# Altium schematic symbol library SolidStateTeslaCoilSCHLIB.SchLib: 34 symbols
Pins are listed as number, name and electrical type; pins without a type are passive.

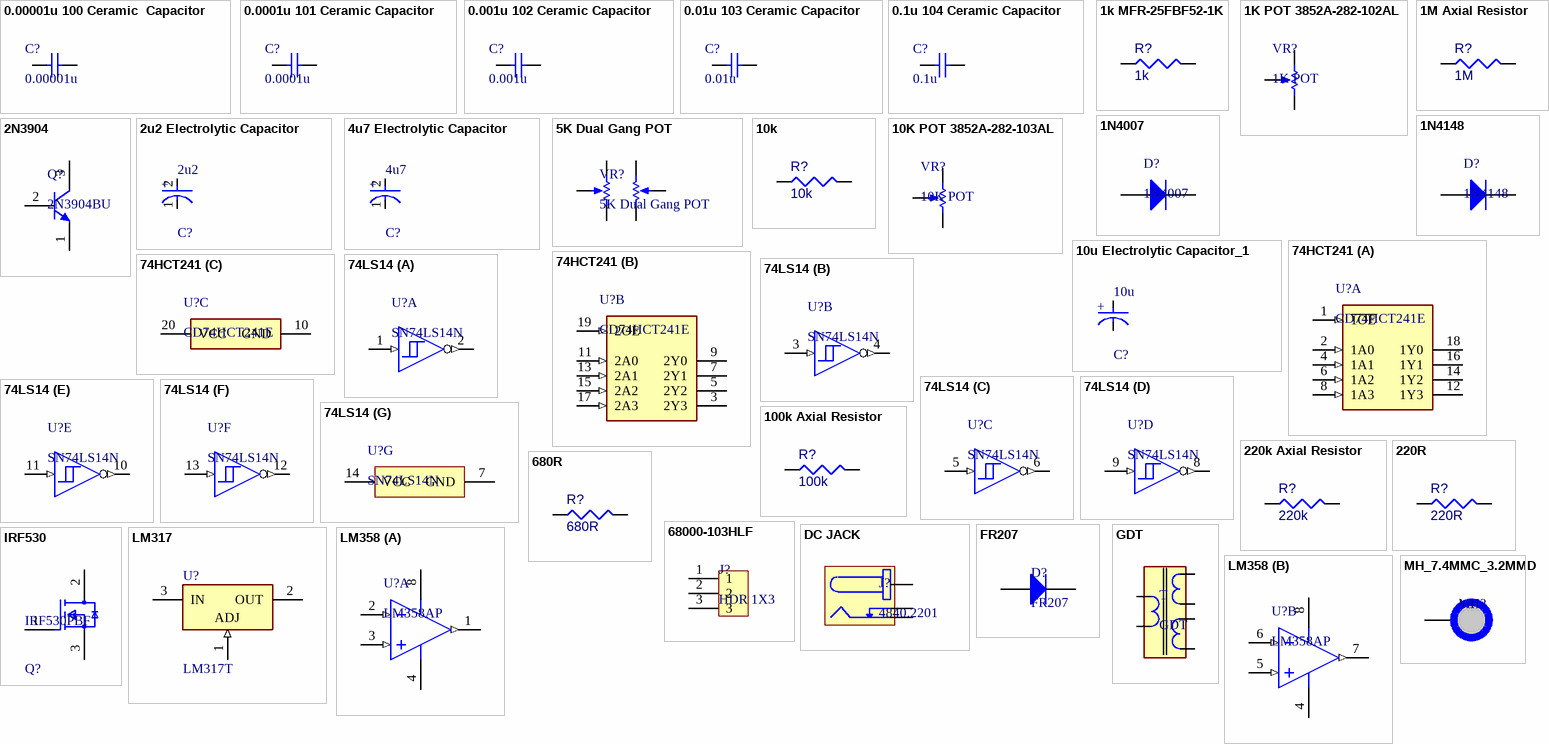
[diagram p0: symbols 0.00001u 100 Ceramic  Capacitor to MH_7.4MMC_3.2MMD]

## 0.00001u 100 Ceramic  Capacitor
designator C?, comment 0.00001u
Ceramic Capacitor, 0.01 nF, +/- 10%, 50 V, -55 to 125 degC, 2-Pin THD, RoHS, Tape and Reel; Manufacturer: Vishay; Other Names: BC1084CT; Catalog Drawings: Mono-KapSide2-15_5.58Mono-KapSide1_15; Temperature Coefficient: X7R; Voltage - Rated: 50V; Online Catalog: Mono-Kap™Series; Capacitance: 0.1µF; Size / Dimension: 0.157"Lx0.098"W(4.00mmx2.50mm); Operating Temperature: -55°C~125°C; Family: CeramicCapacitors; Manufacturer URL: http://www.vishay.com/; Standard Package: 1; Thickness (Max): -; Ratings: -; Datasheet Version: 08/2013; Package Description: 2-Pin Through Hole Device, Body 4 x 2.6 mm; Mounting Type: ThroughHole; Features: -; Lead Spacing: 0.098"(2.50mm); Tolerance: ±10%; Category: Capacitors; Mounting Technology: ThroughHole; Lead Style: Straight; Datasheet URL: http://www.vishay.com/docs/45171/kseries.pdf; Applications: GeneralPurpose; Package / Case: Radial; Height - Seated (Max): 0.220"(5.58mm); Package Reference: K104K15X7RF5TL2; Series: Mono-Kap™K; Packaging: CutTape(CT)
footprint Ceramic Capacitor THT (THD, 2-Leads, Body 4x2.6mm)
pins: 1, 2

## 0.0001u 101 Ceramic Capacitor
designator C?, comment 0.0001u
Ceramic Capacitor, 0.1 nF, +/- 10%, 50 V, -55 to 125 degC, 2-Pin THD, RoHS, Tape and Reel; Manufacturer: Vishay; Other Names: BC1084CT; Catalog Drawings: Mono-KapSide2-15_5.58Mono-KapSide1_15; Temperature Coefficient: X7R; Voltage - Rated: 50V; Online Catalog: Mono-Kap™Series; Capacitance: 0.1µF; Size / Dimension: 0.157"Lx0.098"W(4.00mmx2.50mm); Operating Temperature: -55°C~125°C; Family: CeramicCapacitors; Manufacturer URL: http://www.vishay.com/; Standard Package: 1; Thickness (Max): -; Ratings: -; Datasheet Version: 08/2013; Package Description: 2-Pin Through Hole Device, Body 4 x 2.6 mm; Mounting Type: ThroughHole; Features: -; Lead Spacing: 0.098"(2.50mm); Tolerance: ±10%; Category: Capacitors; Mounting Technology: ThroughHole; Lead Style: Straight; Datasheet URL: http://www.vishay.com/docs/45171/kseries.pdf; Applications: GeneralPurpose; Package / Case: Radial; Height - Seated (Max): 0.220"(5.58mm); Package Reference: K104K15X7RF5TL2; Series: Mono-Kap™K; Packaging: CutTape(CT)
footprint Ceramic Capacitor THT (THD, 2-Leads, Body 4x2.6mm)
pins: 1, 2

## 0.001u 102 Ceramic Capacitor
designator C?, comment 0.001u
Ceramic Capacitor, 1 nF, +/- 10%, 50 V, -55 to 125 degC, 2-Pin THD, RoHS, Tape and Reel; Manufacturer: Vishay; Other Names: BC1084CT; Catalog Drawings: Mono-KapSide2-15_5.58Mono-KapSide1_15; Temperature Coefficient: X7R; Voltage - Rated: 50V; Online Catalog: Mono-Kap™Series; Capacitance: 0.1µF; Size / Dimension: 0.157"Lx0.098"W(4.00mmx2.50mm); Operating Temperature: -55°C~125°C; Family: CeramicCapacitors; Manufacturer URL: http://www.vishay.com/; Standard Package: 1; Thickness (Max): -; Ratings: -; Datasheet Version: 08/2013; Package Description: 2-Pin Through Hole Device, Body 4 x 2.6 mm; Mounting Type: ThroughHole; Features: -; Lead Spacing: 0.098"(2.50mm); Tolerance: ±10%; Category: Capacitors; Mounting Technology: ThroughHole; Lead Style: Straight; Datasheet URL: http://www.vishay.com/docs/45171/kseries.pdf; Applications: GeneralPurpose; Package / Case: Radial; Height - Seated (Max): 0.220"(5.58mm); Package Reference: K104K15X7RF5TL2; Series: Mono-Kap™K; Packaging: CutTape(CT)
footprint Ceramic Capacitor THT (THD, 2-Leads, Body 4x2.6mm)
pins: 1, 2

## 0.01u 103 Ceramic Capacitor
designator C?, comment 0.01u
Ceramic Capacitor, 10 nF, +/- 10%, 50 V, -55 to 125 degC, 2-Pin THD, RoHS, Tape and Reel; Manufacturer: Vishay; Other Names: BC1084CT; Catalog Drawings: Mono-KapSide2-15_5.58Mono-KapSide1_15; Temperature Coefficient: X7R; Voltage - Rated: 50V; Online Catalog: Mono-Kap™Series; Capacitance: 0.1µF; Size / Dimension: 0.157"Lx0.098"W(4.00mmx2.50mm); Operating Temperature: -55°C~125°C; Family: CeramicCapacitors; Manufacturer URL: http://www.vishay.com/; Standard Package: 1; Thickness (Max): -; Ratings: -; Datasheet Version: 08/2013; Package Description: 2-Pin Through Hole Device, Body 4 x 2.6 mm; Mounting Type: ThroughHole; Features: -; Lead Spacing: 0.098"(2.50mm); Tolerance: ±10%; Category: Capacitors; Mounting Technology: ThroughHole; Lead Style: Straight; Datasheet URL: http://www.vishay.com/docs/45171/kseries.pdf; Applications: GeneralPurpose; Package / Case: Radial; Height - Seated (Max): 0.220"(5.58mm); Package Reference: K104K15X7RF5TL2; Series: Mono-Kap™K; Packaging: CutTape(CT)
footprint Ceramic Capacitor THT (THD, 2-Leads, Body 4x2.6mm)
pins: 1, 2

## 0.1u 104 Ceramic Capacitor
designator C?, comment 0.1u
Ceramic Capacitor, 100 nF, +/- 10%, 50 V, -55 to 125 degC, 2-Pin THD, RoHS, Tape and Reel; Manufacturer: Vishay; Other Names: BC1084CT; Catalog Drawings: Mono-KapSide2-15_5.58Mono-KapSide1_15; Temperature Coefficient: X7R; Voltage - Rated: 50V; Online Catalog: Mono-Kap™Series; Capacitance: 0.1µF; Size / Dimension: 0.157"Lx0.098"W(4.00mmx2.50mm); Operating Temperature: -55°C~125°C; Family: CeramicCapacitors; Manufacturer URL: http://www.vishay.com/; Standard Package: 1; Thickness (Max): -; Ratings: -; Datasheet Version: 08/2013; Package Description: 2-Pin Through Hole Device, Body 4 x 2.6 mm; Mounting Type: ThroughHole; Features: -; Lead Spacing: 0.098"(2.50mm); Tolerance: ±10%; Category: Capacitors; Mounting Technology: ThroughHole; Lead Style: Straight; Datasheet URL: http://www.vishay.com/docs/45171/kseries.pdf; Applications: GeneralPurpose; Package / Case: Radial; Height - Seated (Max): 0.220"(5.58mm); Package Reference: K104K15X7RF5TL2; Series: Mono-Kap™K; Packaging: CutTape(CT)
footprint Ceramic Capacitor THT (THD, 2-Leads, Body 4x2.6mm)
pins: 1, 2

## 1k MFR-25FBF52-1K
designator R?, comment 1k
Axial Resistor, 1 KOhm, +/- 1%, 250 mW, -55 to 155 degC, 2-Pin THD, RoHS, Bulk
footprint RESA60-630X240 (Axial Resistor, 2-Leads, Dia 2.4mm, Body Length 6.3mm)
pins: 1, 2
1 alternate drawing of the same symbol

## 1K POT 3852A-282-102AL
designator VR?, comment 1K POT
Diameter Panel Control, 1 KOhm, +/- 10%, 2 W, -1 to 125 degC, 3-Pin THD, RoHS, Bulk; Manufacturer: Bourns; Temperature Coefficient: ±150ppm/degC; Number of Gangs: 1; Other Names: 3852A282103AL; Actuator Length: 0.875"(22.23mm); Resistive Material: Cermet; PCN Design/Specification: PBTResinJun/2011; Rotation: 280deg; PCN Other: MultipleChanges01/Dec/2012; Catalog Drawings: 3852SeriesSide1 / 3852SeriesSide2; Online Catalog: 3852and3856Series; Associated Product: 36-8560-ND / -KNOBINSTRUMW/DIALRND.9"DIA / 36-8555-ND / -KNOBINSTRUMSKIRTEDRND.7"DIA / 36-8556-ND / -KNOBINSTRUMSKIRTEDRND.9"DIA / 36-8565-ND / -KNOBINSTRUMDBLBARRND.7"DIA / 36-8566-ND / -KNOBINSTRUMDBLBARRND.9"DIA / 36-8568-ND / -KNOBINSTRUMSGLBARRND.7"DIA / 36-8569-ND / -KNOBINSTRUMSGLBARRND.9"DIA / 36-8559-ND / -KNOBINSTRUMW/DIALRND.7"DIA / 226-1006-ND / -KNOBBLKGLOSS.75"DIA.250"SHAFT / 226-1007-ND / -KNOBBLKGLOSS.925"DIA.250"SHAFT / 226-1011-ND / -KNOBBLKGLOS; Actuator Diameter: 0.250"(6.35mm); Built in Switch: None; Resistance (Ohms): 10k; Power (Watts): 2W; Actuator Type: Slotted; Standard Package: 45; Tolerance: ±10%; Taper: Linear; Series: 3852; Packaging: Bulk; Category: Potentiometers,VariableResistors; Bushing Thread: 3/8-32; Datasheet URL: https://datasheet.ciiva.com/11831/0900766b80f93b4b-11831016.pdf; Datasheet Version: Sep-14; Number of Turns: 1; Family: RotaryPotentiometers,Rheostats; Termination Style: SolderLug; RoHS Information: 3852A-LMaterialDeclaration; Mounting Type: PanelMount; Manufacturer URL: http://www.bourns.com/
footprint BOUR-3852A-282-103AL-3_V (TH, 3-Leads, Body 19.81x19.05mm, Pitch 6.35mm)
pins: 1 CCW, 2 S, 3 CW

## 1M Axial Resistor
designator R?, comment 1M
Axial Resistor, 1 MOhm,
footprint RESA60-630X240 (Axial Resistor, 2-Leads, Dia 2.4mm, Body Length 6.3mm)
pins: 1, 2
1 alternate drawing of the same symbol

## 1N4007
designator D?
1N4007 Generic Diode; Manufacturer: Fairchild; Elements: 1; Recovery Time: 4ns; Forward Current: 300mA; Power: 500mW; Forward Voltage: 1V; Max Surge Current: 4A; Peak Reverse Current: 5uA; Datasheet URL: http://www.nxp.com/documents/data_sheet/1N4148_1N4448.pdf; Min Operating Temperature: -65°C; Manufacturer URL: https://www.fairchildsemi.com/; Packaging: Bulk; Diameter: 1.91mm; Pins: 2; Package URL: http://www.nxp.com/documents/data_sheet/1N4148_1N4448.pdf; Package Reference: SOD27; Max Operating Temperature: 175°C; Package Quantity: 2000; Case/Package: DO; Datasheet Version: Aug-04; RoHS Compliant: True
footprint Diode (SOD27, 2-Leads, Dia 1.85mm, Body Length 4.25mm, Pin Spacing 9mm)
pins: 1 A, 2 K

## 1N4148
designator D?
High Speed Diode, 100 V, 0.45 A, -65 to 175 degC, 2-Pin SOD27, RoHS, Bulk; Manufacturer: Fairchild; Elements: 1; Recovery Time: 4ns; Forward Current: 300mA; Power: 500mW; Forward Voltage: 1V; Max Surge Current: 4A; Peak Reverse Current: 5uA; Datasheet URL: http://www.nxp.com/documents/data_sheet/1N4148_1N4448.pdf; Min Operating Temperature: -65°C; Manufacturer URL: https://www.fairchildsemi.com/; Packaging: Bulk; Diameter: 1.91mm; Pins: 2; Package URL: http://www.nxp.com/documents/data_sheet/1N4148_1N4448.pdf; Package Reference: SOD27; Max Operating Temperature: 175°C; Package Quantity: 2000; Case/Package: DO; Datasheet Version: Aug-04; RoHS Compliant: True
footprint Diode (SOD27, 2-Leads, Dia 1.85mm, Body Length 4.25mm, Pin Spacing 9mm)
pins: 1 A, 2 K

## 2N3904
designator Q?, comment 2N3904BU
NPN General-Purpose Amplifier, 40 V VCEO, 0.2 A, -55 to 150 degC, 2-Pin TO-92, RoHS, Bulk; Manufacturer: FairchildSemiconductor; Maximum Collector Base Voltage: 60V; Minimum DC Current Gain: 40@0.1mA@1V|70@1mA@1V|100@10mA@1V|60@50mA@1V|30@100mA@1V; Maximum Collector Emitter Voltage: 40V; Maximum DC Collector Current: 0.2A; Rad Hard: No; Maximum Operating Frequency: 300(Min)MHz; Maximum Collector Emitter Saturation Voltage: 0.2@1mA@10mA|0.3@5mA@50mAV; Maximum Power Dissipation: 625mW; Package Description: 3-Pin Transistor Outline Package, Body Dia 4.79 mm, Pitch 1.27 mm; Package Reference: TO-92; Pin Count: 3; Operating Temperature: -55to150degC; Category: GPBJT; Manufacturer URL: https://www.fairchildsemi.com/; Datasheet URL: https://datasheet.ciiva.com/4722/2n3904-82270-4722369.pdf; Package: 3TO-92; Packaging: Bulk; Type: NPN; Datasheet Version: Rev. 1.1.0, 10/2014; Mounting: ThroughHole
footprint FAIR-TO-92 (TO, 3-Leads, Body Dia 4.79mm, Pitch 1.27mm)
pins: 1 E, 2 B, 3 C

## 2u2 Electrolytic Capacitor
designator C?, comment 2u2
Aluminum Electrolytic Capacitors (Radial Lead Type) AEC-Q200 Qualified 2.2uF ±20% 50V; Polarity: Polar; Ripple Current: 45mA; Impedance: 1.8R; Lead Diameter: 0.5mm; Life (Hours): 1000Hour; Voltage Rating: 50V; Case/Package: Radial; Packaging: Tape and Reel; Diameter: 5mm; Construction: RADIAL; Mount: Through Hole; Radiation Hardening: No; Tolerance: 20%; Min Operating Temperature: -55°C; Length: 11mm; Voltage Rating (DC): 50V; Height: 11mm; Max Operating Temperature: 105°C; Package Quantity: 2000; Height - Seated (Max): 0.472inch; ESR (Equivalent Series Resistance): 1.8R; Features: General Purpose; Capacitance: 2.2uF; Lead Pitch: 5mm; Series: FC; RoHS Compliant: Yes; Termination: Radial
footprint FP-RAD-TH-D_5_0_5-L_11_1-MFG
pins: 1 C, 2 A
text: +

## 4u7 Electrolytic Capacitor
designator C?, comment 4u7
Aluminum Electrolytic Capacitors (Radial Lead Type) AEC-Q200 Qualified 4u7uF ±20% 50V; Polarity: Polar; Ripple Current: 45mA; Impedance: 1.8R; Lead Diameter: 0.5mm; Capacitance: 2.2uF; Life (Hours): 1000Hour; Voltage Rating: 50V; Case/Package: Radial; Packaging: Tape and Reel; Diameter: 5mm; Construction: RADIAL; Mount: Through Hole; Radiation Hardening: No; Tolerance: 20%; Min Operating Temperature: -55°C; Length: 11mm; Voltage Rating (DC): 50V; Height: 11mm; Max Operating Temperature: 105°C; Package Quantity: 2000; Height - Seated (Max): 0.472inch; ESR (Equivalent Series Resistance): 1.8R; Features: General Purpose; Lead Pitch: 5mm; Series: FC; RoHS Compliant: Yes; Termination: Radial
footprint FP-RAD-TH-D_5_0_5-L_11_1-MFG
pins: 1 C, 2 A
text: +

## 5K Dual Gang POT
designator VR?
footprint Dual Gang Pot (TH, 3-Leads, Body 19.81x19.05mm, Pitch 6.35mm)
pins: 1 CCW, 2 S, 3 CW, 4 CCW, 5 S, 6 CW

## 10k
designator R?
Axial Resistor, 10 KOhm, +/- 1%, 250 mW, -55 to 155 degC, 2-Pin THD, RoHS, Bulk
footprint RESA60-630X240 (Axial Resistor, 2-Leads, Dia 2.4mm, Body Length 6.3mm)
pins: 1, 2
1 alternate drawing of the same symbol

## 10K POT 3852A-282-103AL
designator VR?, comment 10K POT
Diameter Panel Control, 10 KOhm, +/- 10%, 2 W, -1 to 125 degC, 3-Pin THD, RoHS, Bulk; Manufacturer: Bourns; Temperature Coefficient: ±150ppm/degC; Number of Gangs: 1; Other Names: 3852A282103AL; Actuator Length: 0.875"(22.23mm); Resistive Material: Cermet; PCN Design/Specification: PBTResinJun/2011; Rotation: 280deg; PCN Other: MultipleChanges01/Dec/2012; Catalog Drawings: 3852SeriesSide1 / 3852SeriesSide2; Online Catalog: 3852and3856Series; Associated Product: 36-8560-ND / -KNOBINSTRUMW/DIALRND.9"DIA / 36-8555-ND / -KNOBINSTRUMSKIRTEDRND.7"DIA / 36-8556-ND / -KNOBINSTRUMSKIRTEDRND.9"DIA / 36-8565-ND / -KNOBINSTRUMDBLBARRND.7"DIA / 36-8566-ND / -KNOBINSTRUMDBLBARRND.9"DIA / 36-8568-ND / -KNOBINSTRUMSGLBARRND.7"DIA / 36-8569-ND / -KNOBINSTRUMSGLBARRND.9"DIA / 36-8559-ND / -KNOBINSTRUMW/DIALRND.7"DIA / 226-1006-ND / -KNOBBLKGLOSS.75"DIA.250"SHAFT / 226-1007-ND / -KNOBBLKGLOSS.925"DIA.250"SHAFT / 226-1011-ND / -KNOBBLKGLOS; Actuator Diameter: 0.250"(6.35mm); Built in Switch: None; Power (Watts): 2W; Actuator Type: Slotted; Standard Package: 45; Tolerance: ±10%; Taper: Linear; Series: 3852; Packaging: Bulk; Category: Potentiometers,VariableResistors; Bushing Thread: 3/8-32; Datasheet URL: https://datasheet.ciiva.com/11831/0900766b80f93b4b-11831016.pdf; Datasheet Version: Sep-14; Number of Turns: 1; Family: RotaryPotentiometers,Rheostats; Termination Style: SolderLug; Resistance (Ohms): 10k; RoHS Information: 3852A-LMaterialDeclaration; Mounting Type: PanelMount; Manufacturer URL: http://www.bourns.com/
footprint BOUR-3852A-282-103AL-3_V (TH, 3-Leads, Body 19.81x19.05mm, Pitch 6.35mm)
pins: 1 CCW, 2 S, 3 CW

## 10u Electrolytic Capacitor_1
designator C?, comment 10u
Aluminum Electrolytic Capacitors 10u; Voltage Rating: 50V; Tolerance: 20%; Polarity: Polar; Ripple Current: 45mA; Impedance: 1.8R; Lead Diameter: 0.5mm; Capacitance: 2.2uF; Life (Hours): 1000Hour; Case/Package: Radial; Packaging: Tape and Reel; Diameter: 5mm; Construction: RADIAL; Mount: Through Hole; Radiation Hardening: No; Min Operating Temperature: -55°C; Length: 11mm; Voltage Rating (DC): 50V; Height: 11mm; Max Operating Temperature: 105°C; Package Quantity: 2000; Height - Seated (Max): 0.472inch; ESR (Equivalent Series Resistance): 1.8R; Features: General Purpose; Lead Pitch: 5mm; Series: FC; RoHS Compliant: Yes; Termination: Radial
footprint FP-RAD-TH-D_5_0_5-L_11_1-MFG
pins: 1 C, 2 A
text: +

## 74HCT241
designator U?, comment CD74HCT241E
High Speed CMOS Logic Non-Inverting Octal Buffer/Line Drivers with 3-State Outputs, N0020A, TUBE; Manufacturer: Texas Instruments; VCC(Min)(V): 4.5; Rating: Catalog; Bits(#): 8; tpd @ Nom Voltage(Max)(ns): 28; ICC @ Nom Voltage(Max)(mA): 0.08; Voltage(Nom)(V): 5; Input Type: TTL; F @ Nom Voltage(Max)(Mhz): 25; VCC(Max)(V): 5.5; Generic Part Number: CD74HCT241; PackageVersion: http://www.ti.com/lit/ml/mpdi002c/mpdi002c.pdf; PackageReference: N0020A; Operating Temperature Range(C): -55 to 125; DatasheetVersion: SCHS167E; Output Type: CMOS; Code_JEDEC: MS-001
footprint 20PINDIP (DIP, 20-Leads, Body 26.9x6.6mm, Pitch 2.54mm)
part A pins: 1 ~{1OE} (in), 2 1A0 (in), 4 1A1 (in), 6 1A2 (in), 8 1A3 (in), 12 1Y3 (hiz), 14 1Y2 (hiz), 16 1Y1 (hiz), 18 1Y0 (hiz)
part B pins: 3 2Y3 (hiz), 5 2Y2 (hiz), 7 2Y1 (hiz), 9 2Y0 (hiz), 11 2A0 (in), 13 2A1 (in), 15 2A2 (in), 17 2A3 (in), 19 2OE (in)
part C pins: 10 GND (power), 20 VCC (power)

## 74LS14
designator U?, comment SN74LS14N
Hex schmitt-trigger inverters, N0014A, TUBE; Manufacturer: Texas Instruments; F @ Nom Voltage(Max)(Mhz): 35; Input Type: TTL; Technology Family: LS; Bits(#): 6; Output Drive (IOL/IOH)(Max)(mA): -0.4/8; ICC @ Nom Voltage(Max)(mA): 0.06; VCC(Min)(V): 4.75; Voltage(Nom)(V): 5; tpd @ Nom Voltage(Max)(ns): 22; Schmitt Trigger: Yes; VCC(Max)(V): 5.25; Rating: Catalog; Output Type: CMOS; PackageReference: N0014A; DatasheetVersion: SDLS049B; Code_JEDEC: MS-001; Generic Part Number: SN74LS14; Operating Temperature Range(C): 0 to 70
footprint 14PINDIP (DIP, 14-Leads, Body 19.7x6.6mm, Pitch 2.54mm)
part A pins: 1 1A (in) "Input 1A", 2 ~{1Y} (out) "Output 1Y"
part B pins: 3 2A (in) "Input 2A", 4 ~{2Y} (out) "Output 2Y"
part C pins: 5 3A (in) "Input 3A", 6 ~{3Y} (out) "Output 3Y"
part D pins: 8 ~{4Y} (out) "Output 4Y", 9 4A (in) "Input 4A"
part E pins: 10 ~{5Y} (out) "Output 5Y", 11 5A (in) "Input 5A"
part F pins: 12 ~{6Y} (out) "Output 6Y", 13 6A (in) "Input 6A"
part G pins: 7 GND (power) "Ground Pin", 14 VCC (power) "Power Pin"

## 100k Axial Resistor
designator R?, comment 100k
Axial Resistor, 100 KOhm
footprint RESA60-630X240 (Axial Resistor, 2-Leads, Dia 2.4mm, Body Length 6.3mm)
pins: 1, 2
1 alternate drawing of the same symbol

## 220k Axial Resistor
designator R?, comment 220k
Axial Resistor, 220 KOhm,
footprint RESA60-630X240 (Axial Resistor, 2-Leads, Dia 2.4mm, Body Length 6.3mm)
pins: 1, 2
1 alternate drawing of the same symbol

## 220R
designator R?
Axial Resistor, 220 Ohm,
footprint RESA60-630X240 (Axial Resistor, 2-Leads, Dia 2.4mm, Body Length 6.3mm)
pins: 1, 2
1 alternate drawing of the same symbol

## 680R
designator R?
Axial Resistor, 680 Ohm,
footprint RESA60-630X240 (Axial Resistor, 2-Leads, Dia 2.4mm, Body Length 6.3mm)
pins: 1, 2
1 alternate drawing of the same symbol

## 68000-103HLF
designator J?, comment HDR 1X3
Conn Unshrouded Header HDR 3 POS 2.54mm Solder ST Top Entry Thru-Hole BergStik® Automotive Bulk; Manufacturer: Amphenol ICC / FCI; Manufacturer Part Number: 68000-103HLF; Supplier 1: Digi-Key; RoHS: No; Category: Headers and Wire Housings; ComponentLink1URL: https://datasheet.ciiva.com/46392/1914865-46392021.pdf?src-supplier=Element14; ComponentLink1Description: https://datasheet.ciiva.com/46392/1914865-46392021.pdf?src-supplier=Element14; Supplier Part Number 1: 609-3461-ND
footprint HDR_1x3_2.54mm
pins: 1, 2, 3

## DC JACK
designator J?, comment 4840.2201
DC Connector Socket 6x2mm 2-Pole 12VDC 0.5A 500VDC Dielectric Solder Term PCB Mt; Manufacturer: Schurter; Number of Terminals/Pins: 3; Gender: Male; Shielding: Unshielded; Current Rating: 500mA; Voltage Rating: 12V; Number of Ports: 1; Connector Type: Jack; Pin Diameter: 2mm; Supplier 1: Digi-Key; Manufacturer Part Number: 4840.2201; RoHS: Yes; Category: Connectors; Stock 1: 9153; Pricing 1: 1=1.82000, 50=1.67900, 100=1.41120 (USD); Mounting Technology: Through Hole; Color: Black; Contact Material: Copper Alloy; Housing Material: PC; Weight: 0.007125oz; Contact Plating: Tin; Housing Color: Black; Termination: Solder; Number of Contacts: 3; Orientation: Right Angle; Package Quantity: 500; Series: 4840; Length: 9mm; Width: 9mm; Depth: 14.5mm; Radiation Hardening: No; Lead Free: Lead Free; RoHS Compliant: Yes; ComponentLink1URL: https://datasheet.ciiva.com/26837/getdatasheetpartid-572408-26837414.pdf?src-supplier=Verical; ComponentLink1Description: https://datasheet.ciiva.com/26837/getdatasheetpartid-572408-26837414.pdf?src-supplier=Verical; ComponentLink2URL: https://datasheet.ciiva.com/16318/typ-4840-1200-16318967.pdf?src-supplier=Future+Electronics; ComponentLink2Description: https://datasheet.ciiva.com/16318/typ-4840-1200-16318967.pdf?src-supplier=Future+Electronics; ComponentLink3URL: https://datasheet.ciiva.com/12342/typ-4840-2201-65401-12342879.pdf?src-supplier=Mouser; ComponentLink3Description: https://datasheet.ciiva.com/12342/typ-4840-2201-65401-12342879.pdf?src-supplier=Mouser; ComponentLink4URL: https://datasheet.ciiva.com/391/typ-4840-2201-391834.pdf?src-supplier=Digi-Key; ComponentLink4Description: https://datasheet.ciiva.com/391/typ-4840-2201-391834.pdf?src-supplier=Digi-Key; Supplier Part Number 1: 486-3381-ND
footprint DC_JACK
pins: 1, 2, 3

## FR207
designator D?
MULTICOMP         FR207            Standard Power Diode fast diode, Single, 1 kV, 2 A, 1.2 V, 60 A, 150 C; Supplier 1: Newark; Manufacturer: Multicomp; Manufacturer Part Number: FR207; RoHS: Yes; Category: Uncategorized; Pricing 1: 5=0.23, 10=0.19, 100=0.075, 1000=0.053 (USD); ComponentLink1URL: http://www.farnell.com/datasheets/1693119.pdf?src-supplier=Element14; ComponentLink1Description: http://www.farnell.com/datasheets/1693119.pdf?src-supplier=Element14; Supplier Part Number 1: 01P3472
footprint Diode (SOD27, 2-Leads, Dia 1.85mm, Body Length 4.25mm, Pin Spacing 9mm)
pins: 1 A, 2 K

## GDT
designator T
pins: 1, 2, 3, 4, 5, 6

## IRF530
designator Q?, comment IRF530PBF
MOSFET N-CH 100V 14A TO-220AB; Manufacturer: Vishay; Reverse Recovery Charge: 850nC; Rthja Max: 62°C/W; Power Dissipation: 88W; Depletion Mode: False; Input Capacitace At Vds: 670pF @ 25V; Pulse Drain Current: 56A; Turn On Delay Time: 10ns; Drain To Source Resistance: 0.16Ω; Number Of N Channels: 1; Max Junction Temp: +175°C; Threshold Vgs Max: 4V; Standoff Height: 3.33mm; Max Forward Diode Voltage: 2.5V; Turn Off Delay Time: 23ns; Gate To Source Voltage: 20V; Threshold Vgs Min: 2V; Reverse Recovery Time: 150ns; Gate Charge At Vgs: 26nC @ 10V; Temperature: -55°C to +175°C; Drain To Source Voltage: 100V; Mouser Description: MOSFET N-Chan 100V 14 Amp; Device Class L2: Transistors; Temperature Range High: +175°C; ComponentLink2URL: http://www.vishay.com/docs/91019/91019.pdf; Lead Free: Yes; Height: 19.89mm; Octopart: https://octopart.com/irf530pbf-vishay-46547999; Category: Trans; ComponentLink2Description: Datasheet; RoHS: TRUE; Device Class L3: MOSFETs; Automotive: No; Device Class L1: Discrete Semiconductors; Package: X15-0364; Manufacturer Part Number: IRF530PBF; Continuous Drain Current: 14A; Digikey Description: MOSFET N-CH 100V 14A TO-220AB; Number Of Channels: 1; Drain To Source Breakdown Voltage: 100V; Temperature Range Low: -55°C
footprint FP-X15-0364-MFG
pins: 1 G, 2 D, 3 S

## LM317
designator U?, comment LM317T
Integrated Circuit 3-terminal Positive Adjustable Voltage Regulator TO-220 Case 1.2 To 37 Volts; Case/Package: TO-220; Pins: 3; RoHS Compliant: Yes
footprint TO-220 (TO, Thru-Hole, Vertical, Heatsink Mounted; 3 In-Line Leads; Pitch 2.54 mm)
pins: 1 ADJ (in), 2 OUT (power), 3 IN (power)

## LM358
designator U?, comment LM358AP
Dual Operational Amplifier, 3 to 32 V, 0 to 70 degC, 8-Pin PDIP (P), Pb-Free (RoHS), Tube; Manufacturer: Texas Instruments (TI); Channels: 2; Max Dual Supply Voltage: 16V; Min Dual Supply Voltage: 1.5V; Slew Rate: 0.3V/us; Unity Gain Bandwidth Product: 700KHz; Common Mode Rejection Ratio: 65dB; Nominal Supply Voltage: 5V; Package Version: 4040082/E, 04/2010; Output Current: 30mA; Nominal Supply Current: 1.2mA; Nominal Voltage Gain: 100dB; Case/Package: DIP; Max Operating Temperature: 70°C; RoHS Compliant: True; Manufacturer URL: http://www.ti.com/; Pins: 8; Package Description: 8-Pin Double In-line Package, Body 9.59 x 6.35 mm, Pitch 2.54 mm; Datasheet URL: http://www.ti.com/lit/ds/symlink/lm358a.pdf; Max Supply Voltage: 16V; Package Reference: P0008A; Mounting Technology: TH; Min Operating Temperature: 0°C; Package URL: http://www.ti.com/lit/ml/mpdi001b/mpdi001b.pdf; Min Supply Voltage: 1.5V; Package Quantity: 50; Packaging: Rail/Tube; Datasheet Version: SLOS068T, 04/2015; Nominal Gain Bandwith Product: 700KHz
footprint 8PinDIP (DIP, 8-Leads, Body 10.15x6.6mm, Pitch 2.54mm)
pins on every part: 4 GND (power), 8 VCC (power)
part A pins: 1 1OUT (out), 2 1IN- (in), 3 1IN+ (in)
part B pins: 5 2IN+ (in), 6 2IN- (in), 7 2OUT (out)

## MH_7.4MMC_3.2MMD
designator MH?  (value not drawn)  (no BOM)
Mounting Hole 7.4mm Diameter, 3.2mm Drill
footprint MH_7.4MMC_3.2MMD
pins: 1

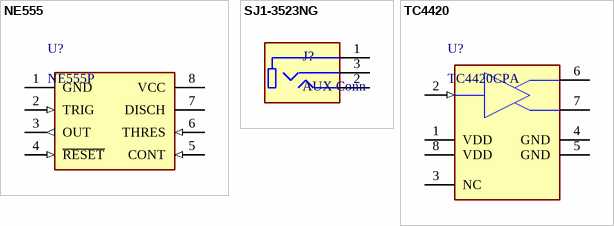
[diagram p1: symbols NE555 to TC4420]

## NE555
designator U?, comment NE555P
Precision Timer, 4.5 to 16 V, 0 to 70 degC, 8-Pin DIP, Pb-Free, Tube; Manufacturer: TexasInstruments; Maximum High Level Output Current: -200mA; Number of Internal Timers: 1; Operating Supply Voltage: 5|9|12|15V; Maximum Low Level Output Current: 200mA; Rad Hard: No; Packaging: Rail/Tube; Manufacturer URL: http://www.ti.com/; Package Reference: P8; Package Description: 8-Pin Double In-line Package, Body 9.59 x 6.35 mm, Pitch 2.54 mm; Package URL: http://www.ti.com/lit/ml/mpdi001b/mpdi001b.pdf; Type: Standard; Datasheet URL: http://www.ti.com/general/docs/lit/getliterature.tsp?genericPartNumber=NE555&fileType=pdf; Category: Timer; Package: 8PDIP; Datasheet Version: Rev. I, 09/2014
footprint 8PinDIP (DIP, 8-Leads, Body 10.15x6.6mm, Pitch 2.54mm)
pins: 1 GND (power), 2 TRIG (in), 3 OUT (out), 4 ~{RESET} (in), 5 CONT (in), 6 THRES (in), 7 DISCH (oc), 8 VCC (power)

## SJ1-3523NG
designator J?, comment AUX Conn
3.5 mm Right-Angle Stereo Jack, 3 Pin PCB Mount, Isolated Ground; MP: SJ1-3523NG; Availability: Unavailable; Price: None; Case/Package: None; Pins: 3; Component Type: Standard; Design Item ID: SJ1-3523NG; Value: *; Source: SJ1-3523NG.SchLib
footprint CUI_SJ1-3523NG
pins: 1, 2, 3

## TC4420
designator U?, comment TC4420CPA
6A High-Speed MOSFET Driver, Non-Inverting, Commercial Temperature; Code_JEDEC: MS-001-BA; PackageReference: PDIP300-PA8; PackageVersion: revBB, Aug-2009; PackageDescription: 8-Lead Plastic Dual In-Line (PA) - 300 mil Body [PDIP]; DatasheetVersion: revC, Aug-2004
footprint 8PinDIP (DIP, 8-Leads, Body 10.15x6.6mm, Pitch 2.54mm)
pins: 1 VDD (power), 2 IN (in), 3 NC, 4 GND (power), 5 GND (power), 6 OUT (hiz), 7 OUT (hiz), 8 VDD (power)